# Altium schematic symbol library Sensor_Magnetic_TCS40DPR_1.Schlib: 1 symbol
Pins are listed as number, name and electrical type; pins without a type are passive.

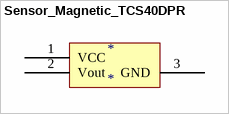
[diagram p0: symbol Sensor_Magnetic_TCS40DPR]

## Sensor_Magnetic_TCS40DPR
designator *
footprint SON3-P-0203-1.90S (SOT23, 3-Leads, Body 2.90x2.40mm, Pitch 0.95mm, IPC Medium Density)
pins: 1 VCC, 2 Vout, 3 GND